# Altium schematic symbol library WS-ENTV.SchLib: 6 symbols
Pins are listed as number, name and electrical type; pins without a type are passive.

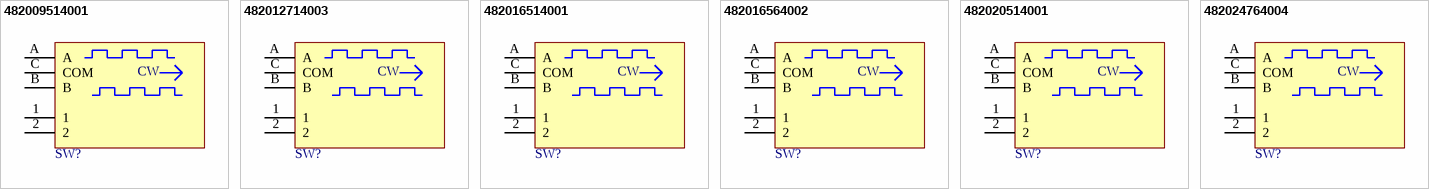
[diagram p0: symbols 482009514001 to 482024764004]

## 482009514001
designator SW?  (value not drawn)
WS-ENTV Mechanical Incremental Encoder Switch, Metal Shaft with bushing, 8Pulse/360°, 16positions, 1; Manufacturer: Wurth Elektronik; Operation Force: 600g; Electrical Life Encoder: 15000Cycles; Electrical Life Switch: 20000Cycles; Insulation Resistance: 100MΩ; Rated Current: 10mA; ComponentLink1Description: Website Link; ComponentLink1URL: https://www.we-online.com/redexpert/article/482009514001?ad; ComponentLink2Description: Datasheet Link; ComponentLink2URL: https://www.we-online.com/redexpert/spec/482009514001?ad; Manufacturer Part Number: 482009514001; Category: Encoder Switches; Match Code: WS-ENTV; Mount: Through Hole; Operating Temperature Max: 85°C; Operating Temperature Min: -40°C; Packaging: Tray; Length: 13.75mm; Width: 11.7mm; Height: 26.6mm; Detent: 16positions; Resolution: 8Pulse/360°
footprint 4820xx514001
pins: 1, 2, A "Channel A", B "Channel B", C COM "Common"
text: CW

## 482012714003
designator SW?  (value not drawn)
WS-ENTV Mechanical Incremental Encoder Switch, Plastic Shaft with Threaded bushing, 12Pulse/360°, 12; Manufacturer: Wurth Elektronik; Operation Force: 300g; Detent: 12positions; Electrical Life Encoder: 30000Cycles; Electrical Life Switch: 20000Cycles; Insulation Resistance: 100MΩ; Rated Current: 10mA; ComponentLink1Description: Website Link; ComponentLink1URL: https://www.we-online.com/redexpert/article/482012714003?ad; ComponentLink2Description: Datasheet Link; ComponentLink2URL: https://www.we-online.com/redexpert/spec/482012714003?ad; Manufacturer Part Number: 482012714003; Category: Encoder Switches; Match Code: WS-ENTV; Mount: Through Hole; Operating Temperature Max: 85°C; Operating Temperature Min: -40°C; Packaging: Tray; Length: 13.2mm; Width: 12.4mm; Height: 20mm; Resolution: 12Pulse/360°
footprint 482012714003
pins: 1, 2, A "Channel A", B "Channel B", C COM "Common"
text: CW

## 482016514001
designator SW?  (value not drawn)
WS-ENTV Mechanical Incremental Encoder Switch, Metal Shaft with bushing, 15Pulse/360°, 30positions,; Manufacturer: Wurth Elektronik; Operation Force: 600g; Electrical Life Encoder: 15000Cycles; Electrical Life Switch: 20000Cycles; Insulation Resistance: 100MΩ; Rated Current: 10mA; ComponentLink1Description: Website Link; ComponentLink1URL: https://www.we-online.com/redexpert/article/482016514001?ad; ComponentLink2Description: Datasheet Link; ComponentLink2URL: https://www.we-online.com/redexpert/spec/482016514001?ad; Manufacturer Part Number: 482016514001; Category: Encoder Switches; Match Code: WS-ENTV; Mount: Through Hole; Operating Temperature Max: 85°C; Operating Temperature Min: -40°C; Packaging: Tray; Length: 13.75mm; Width: 11.7mm; Height: 26.6mm; Detent: 30positions; Resolution: 15Pulse/360°
footprint 4820xx514001
pins: 1, 2, A "Channel A", B "Channel B", C COM "Common"
text: CW

## 482016564002
designator SW?  (value not drawn)
WS-ENTV Mechanical Incremental Encoder Switch, Metal Shaft with Plain bushing, 15Pulse/360°, 30posit; Manufacturer: Wurth Elektronik; Operation Force: 350g; Detent: 30positions; Electrical Life Encoder: 15000Cycles; Electrical Life Switch: 20000Cycles; Insulation Resistance: 100MΩ; Rated Current: 10mA; ComponentLink1Description: Website Link; ComponentLink1URL: https://www.we-online.com/redexpert/article/482016564002?ad; ComponentLink2Description: Datasheet Link; ComponentLink2URL: https://www.we-online.com/redexpert/spec/482016564002?ad; Manufacturer Part Number: 482016564002; Category: Encoder Switches; Match Code: WS-ENTV; Mount: Through Hole; Operating Temperature Max: 85°C; Operating Temperature Min: -40°C; Packaging: Tray; Length: 12mm; Width: 11.7mm; Height: 24.5mm; Resolution: 15Pulse/360°
footprint 482016564002
pins: 1, 2, A "Channel A", B "Channel B", C COM "Common"
text: CW

## 482020514001
designator SW?  (value not drawn)
WS-ENTV Mechanical Incremental Encoder Switch, Metal Shaft with bushing, 20Pulse/360°, 20positions,; Manufacturer: Wurth Elektronik; Operation Force: 600g; Electrical Life Encoder: 15000Cycles; Electrical Life Switch: 20000Cycles; Insulation Resistance: 100MΩ; Rated Current: 10mA; ComponentLink1Description: Website Link; ComponentLink1URL: https://www.we-online.com/redexpert/article/482020514001?ad; ComponentLink2Description: Datasheet Link; ComponentLink2URL: https://www.we-online.com/redexpert/spec/482020514001?ad; Manufacturer Part Number: 482020514001; Category: Encoder Switches; Match Code: WS-ENTV; Mount: Through Hole; Operating Temperature Max: 85°C; Operating Temperature Min: -40°C; Packaging: Tray; Length: 13.75mm; Width: 11.7mm; Height: 26.6mm; Detent: 20positions; Resolution: 20Pulse/360°
footprint 4820xx514001
pins: 1, 2, A "Channel A", B "Channel B", C COM "Common"
text: CW

## 482024764004
designator SW?  (value not drawn)
WS-ENTV Mechanical Incremental Encoder Switch, Plastic Shaft without bushing, 24Pulse/360°, 24positi; Manufacturer: Wurth Elektronik; Operation Force: 300g; Detent: 24positions; Electrical Life Encoder: 30000Cycles; Electrical Life Switch: 20000Cycles; Insulation Resistance: 100MΩ; Rated Current: 10mA; ComponentLink1Description: Website Link; ComponentLink1URL: https://www.we-online.com/redexpert/article/482024764004?ad; ComponentLink2Description: Datasheet Link; ComponentLink2URL: https://www.we-online.com/redexpert/spec/482024764004?ad; Manufacturer Part Number: 482024764004; Category: Encoder Switches; Match Code: WS-ENTV; Mount: Through Hole; Operating Temperature Max: 85°C; Operating Temperature Min: -40°C; Packaging: Tray; Length: 13.2mm; Width: 12.4mm; Height: 20mm; Resolution: 24Pulse/360°
footprint 482024764004
pins: 1, 2, A "Channel A", B "Channel B", C COM "Common"
text: CW